# Altium integrated library Linear Technology Power Management System Supervisor, Monitor and Control.IntLib: 1611 symbols (part 44 of 100)
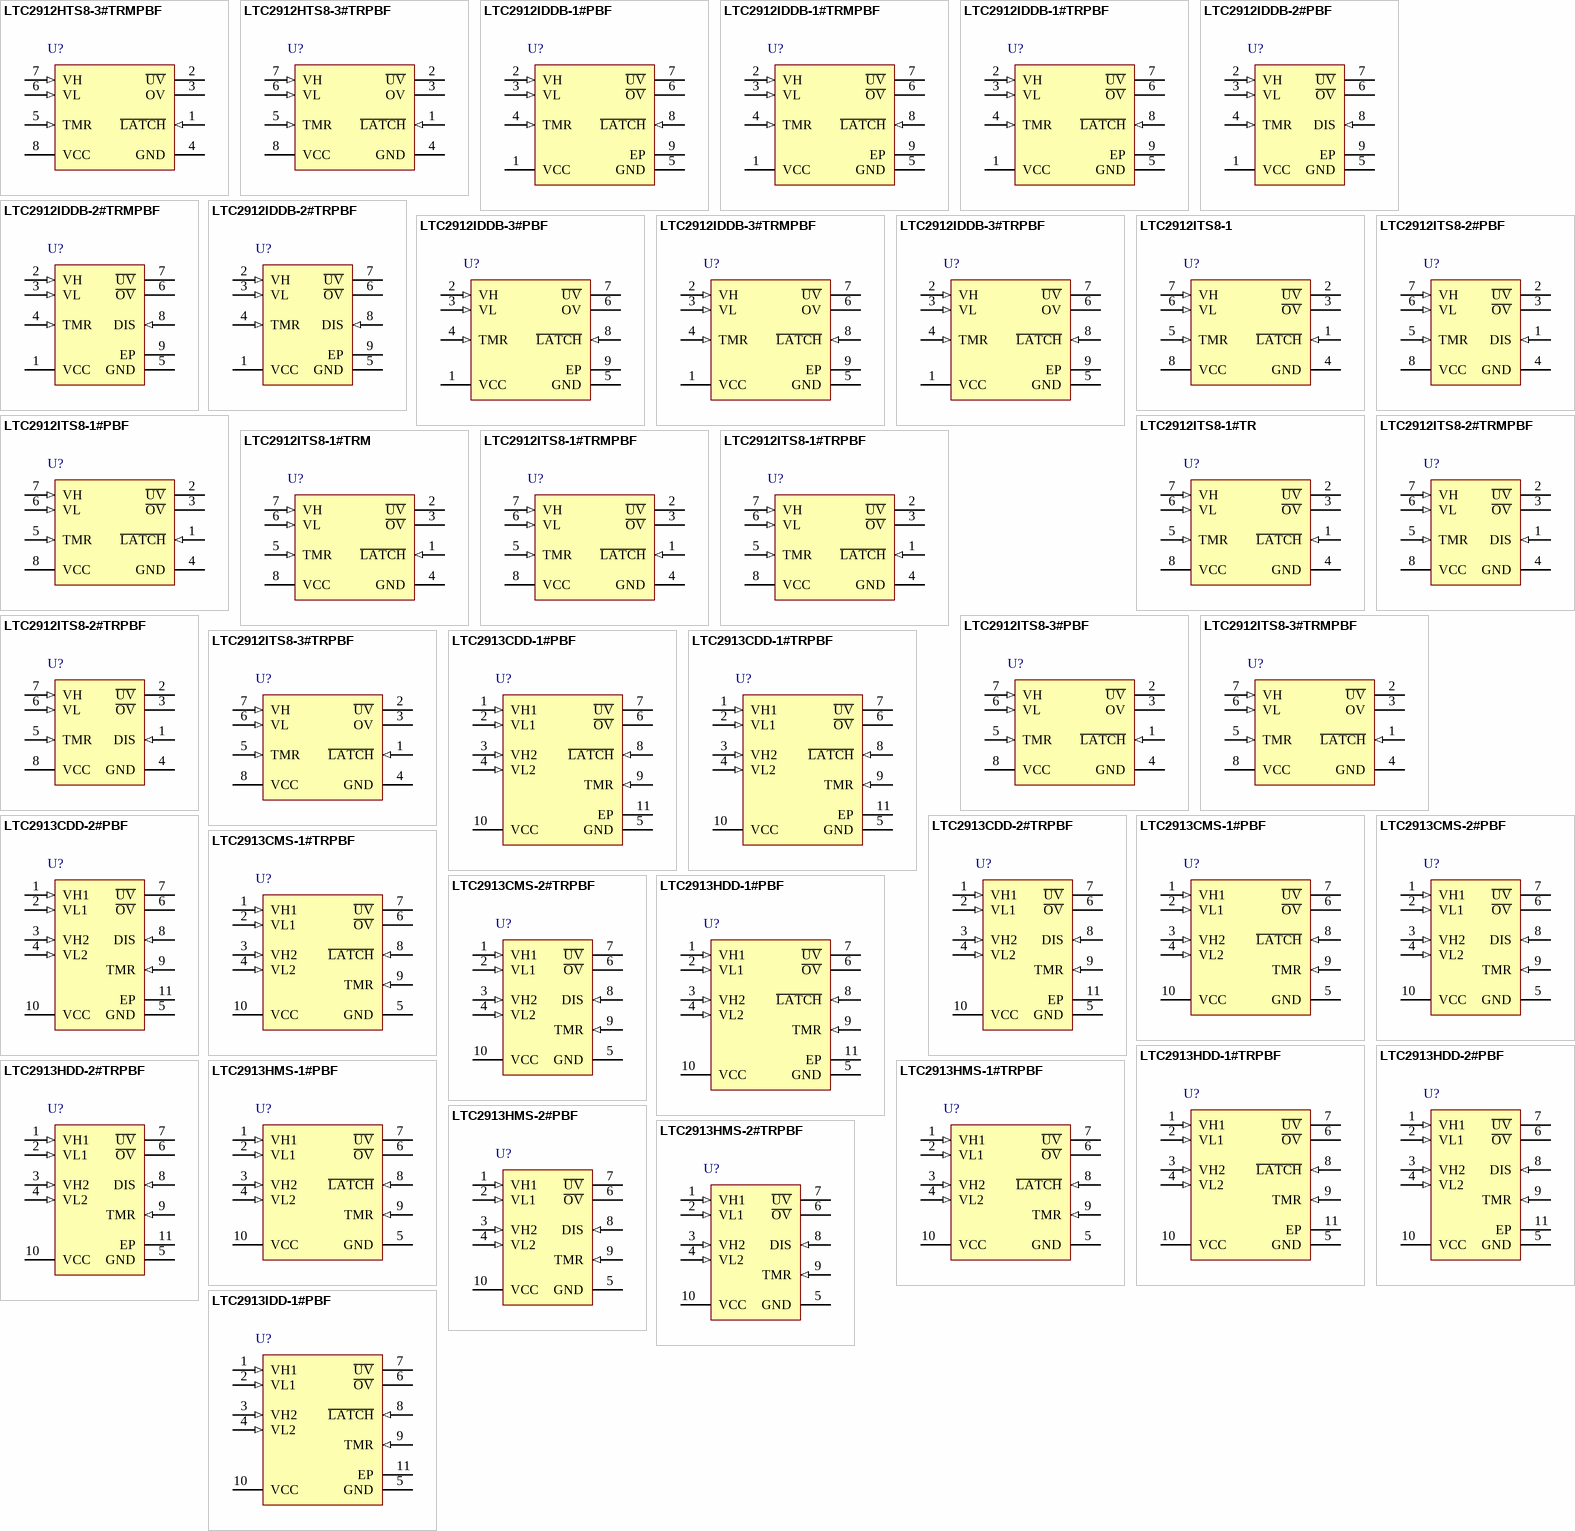
[diagram p88: symbols LTC2912HTS8-3#TRMPBF to LTC2913IDD-1#PBF]

## LTC2912ITS8-2#TRMPBF
designator U?
Single UV/OV Voltage Monitor, 8-pin SOT23 (TS8-8), -40 to 85 degC, Pb-Free, Mini Tape and Reel; Manufacturer: Linear Technology; PartNumber: LTC2912ITS8-2#TRMPBF; Number of Supplies(#): 1; DatasheetVersion: Rev. A; PackageVersion: Rev. A, 08/2010; PackageReference: TS8-8; PackageDescription: 8-Pin Plastic TSOT-23, Body 2.9 x 1.63 mm, Pitch 0.65 mm; Supplier 1: Digi-Key; Supplier Part Number 1: LTC2912ITS8-2#TRMPBFTR-ND; Supplier 2: Digi-Key; Supplier Part Number 2: LTC2912ITS8-2#TRMPBFCT-ND; Supplier 3: Digi-Key; Supplier Part Number 3: LTC2912ITS8-2#TRMPBFDKR-ND; Supplier 4: Farnell; Supplier Part Number 4: 1663883; Supplier 5: Farnell; Supplier Part Number 5: 1663883RL; Supplier 6: Newark; Supplier Part Number 6: 56M6875; Packing: Mini Tape and Reel; RoHS: TRUE; Mounting Technology: Surface Mount; Code_JEDEC: MO-193; ComponentLink1Description: Manufacturer URL; ComponentLink1URL: http://www.linear.com/; ComponentLink2Description: Datasheet; ComponentLink2URL: http://cds.linear.com/docs/en/datasheet/2912fa.pdf; ComponentLink3Description: Package Specification; ComponentLink3URL: http://cds.linear.com/docs/en/packaging/SOT_8_05-08-1637.pdf
footprint LT-TS8-8-TSOT-23_V (SOT23, 8-Leads, Body 2.9x1.75mm, Pitch 0.65mm)
pins: 1 DIS (in) "Output Disable Input. Disables the O\V\ and U\V\ output pins. When DIS is pulled high, the O\V\ and U\V\ pins are not asserted except during a UVLO condition. Pin has a weak (2uA) internal pull-down to GND. Leave pin open if (See Datasheet)", 2 ~{UV} (oc) "Undervoltage Logic Output. Asserts low when the VH input voltage is below threshold. Held low for a programmed delay time after the VH input is valid. Pin has a weak pull-up to VCC and may be pulled above VCC using an (See Datasheet)", 3 ~{OV} (oc) "Overvoltage Logic Output. Asserts high with a weak internal pull-up to VCC when the VL input is above threshold. Latches high. May be pulled above VCC using an external pull-up. Leave pin open if unused.", 4 GND (power) "Device Ground.", 5 TMR (in) "Reset Delay Timer. Attach an external capacitor (CTMR) of at least 10pF to GND to set a reset delay time of 9ms/nF. A 1nF capacitor will generate an 8.5ms reset delay time. Tie pin to VCC to bypass timer.", 6 VL (in) "Voltage Low Input. When the voltage on this pin is above 0.5V, an overvoltage condition is triggered. Tie pin to GND if unused.", 7 VH (in) "Voltage High Input. When the voltage on this pin is below 0.5V, an undervoltage condition is triggered. Tie pin to VCC if unused.", 8 VCC (power) "Supply Voltage. Bypass this pin to GND with a 0.1uF (or greater) capacitor. Operates as a direct supply input for voltages up to 6V. Operates as a shunt regulator for supply voltages greater than 6V and should have a (See Datasheet)"

## LTC2912ITS8-2#TRPBF
designator U?
Single UV/OV Voltage Monitor, 8-pin SOT23 (TS8-8), -40 to 85 degC, Pb-Free, Tape and Reel; Manufacturer: Linear Technology; PartNumber: LTC2912ITS8-2#TRPBF; Number of Supplies(#): 1; DatasheetVersion: Rev. A; PackageVersion: Rev. A, 08/2010; PackageReference: TS8-8; PackageDescription: 8-Pin Plastic TSOT-23, Body 2.9 x 1.63 mm, Pitch 0.65 mm; Supplier 1: Digi-Key; Supplier Part Number 1: LTC2912ITS8-2#TRPBF-ND; Supplier 2: Newark; Supplier Part Number 2: 56M6876; Packing: Tape and Reel; RoHS: TRUE; Mounting Technology: Surface Mount; Code_JEDEC: MO-193; ComponentLink1Description: Manufacturer URL; ComponentLink1URL: http://www.linear.com/; ComponentLink2Description: Datasheet; ComponentLink2URL: http://cds.linear.com/docs/en/datasheet/2912fa.pdf; ComponentLink3Description: Package Specification; ComponentLink3URL: http://cds.linear.com/docs/en/packaging/SOT_8_05-08-1637.pdf
footprint LT-TS8-8-TSOT-23_V (SOT23, 8-Leads, Body 2.9x1.75mm, Pitch 0.65mm)
pins: 1 DIS (in) "Output Disable Input. Disables the O\V\ and U\V\ output pins. When DIS is pulled high, the O\V\ and U\V\ pins are not asserted except during a UVLO condition. Pin has a weak (2uA) internal pull-down to GND. Leave pin open if (See Datasheet)", 2 ~{UV} (oc) "Undervoltage Logic Output. Asserts low when the VH input voltage is below threshold. Held low for a programmed delay time after the VH input is valid. Pin has a weak pull-up to VCC and may be pulled above VCC using an (See Datasheet)", 3 ~{OV} (oc) "Overvoltage Logic Output. Asserts high with a weak internal pull-up to VCC when the VL input is above threshold. Latches high. May be pulled above VCC using an external pull-up. Leave pin open if unused.", 4 GND (power) "Device Ground.", 5 TMR (in) "Reset Delay Timer. Attach an external capacitor (CTMR) of at least 10pF to GND to set a reset delay time of 9ms/nF. A 1nF capacitor will generate an 8.5ms reset delay time. Tie pin to VCC to bypass timer.", 6 VL (in) "Voltage Low Input. When the voltage on this pin is above 0.5V, an overvoltage condition is triggered. Tie pin to GND if unused.", 7 VH (in) "Voltage High Input. When the voltage on this pin is below 0.5V, an undervoltage condition is triggered. Tie pin to VCC if unused.", 8 VCC (power) "Supply Voltage. Bypass this pin to GND with a 0.1uF (or greater) capacitor. Operates as a direct supply input for voltages up to 6V. Operates as a shunt regulator for supply voltages greater than 6V and should have a (See Datasheet)"

## LTC2912ITS8-3#PBF
designator U?
Single UV/OV Voltage Monitor, 8-pin SOT23 (TS8-8), -40 to 85 degC, Pb-Free; Manufacturer: Linear Technology; PartNumber: LTC2912ITS8-3#PBF; Number of Supplies(#): 1; DatasheetVersion: Rev. A; PackageVersion: Rev. A, 08/2010; PackageReference: TS8-8; PackageDescription: 8-Pin Plastic TSOT-23, Body 2.9 x 1.63 mm, Pitch 0.65 mm; RoHS: TRUE; Mounting Technology: Surface Mount; Code_JEDEC: MO-193; ComponentLink1Description: Manufacturer URL; ComponentLink1URL: http://www.linear.com/; ComponentLink2Description: Datasheet; ComponentLink2URL: http://cds.linear.com/docs/en/datasheet/2912fa.pdf; ComponentLink3Description: Package Specification; ComponentLink3URL: http://cds.linear.com/docs/en/packaging/SOT_8_05-08-1637.pdf
footprint LT-TS8-8-TSOT-23_V (SOT23, 8-Leads, Body 2.9x1.75mm, Pitch 0.65mm)
pins: 1 ~{LATCH} (in) "OV/O\V\ Latch Clear/Bypass Input. When pulled high, OV/O\V\ latch is cleared. While held high, OV/O\V\ has a similar delay and output characteristic as U\V\.", 2 ~{UV} (oc) "Undervoltage Logic Output. Asserts low when the VH input voltage is below threshold. Held low for a programmed delay time after the VH input is valid. Pin has a weak pull-up to VCC and may be pulled above VCC using an (See Datasheet)", 3 OV (oc) "Overvoltage Logic Output. Asserts high with a weak internal pull-up to VCC when the VL input is above threshold. Latches high. May be pulled above VCC using an external pull-up. Leave pin open if unused.", 4 GND (power) "Device Ground.", 5 TMR (in) "Reset Delay Timer. Attach an external capacitor (CTMR) of at least 10pF to GND to set a reset delay time of 9ms/nF. A 1nF capacitor will generate an 8.5ms reset delay time. Tie pin to VCC to bypass timer.", 6 VL (in) "Voltage Low Input. When the voltage on this pin is above 0.5V, an overvoltage condition is triggered. Tie pin to GND if unused.", 7 VH (in) "Voltage High Input. When the voltage on this pin is below 0.5V, an undervoltage condition is triggered. Tie pin to VCC if unused.", 8 VCC (power) "Supply Voltage. Bypass this pin to GND with a 0.1uF (or greater) capacitor. Operates as a direct supply input for voltages up to 6V. Operates as a shunt regulator for supply voltages greater than 6V and should have a (See Datasheet)"

## LTC2912ITS8-3#TRMPBF
designator U?
Single UV/OV Voltage Monitor, 8-pin SOT23 (TS8-8), -40 to 85 degC, Pb-Free, Mini Tape and Reel; Manufacturer: Linear Technology; PartNumber: LTC2912ITS8-3#TRMPBF; Number of Supplies(#): 1; DatasheetVersion: Rev. A; PackageVersion: Rev. A, 08/2010; PackageReference: TS8-8; PackageDescription: 8-Pin Plastic TSOT-23, Body 2.9 x 1.63 mm, Pitch 0.65 mm; Supplier 1: Digi-Key; Supplier Part Number 1: LTC2912ITS8-3#TRMPBFTR-ND; Supplier 2: Digi-Key; Supplier Part Number 2: LTC2912ITS8-3#TRMPBFCT-ND; Supplier 3: Digi-Key; Supplier Part Number 3: LTC2912ITS8-3#TRMPBFDKR-ND; Packing: Mini Tape and Reel; RoHS: TRUE; Mounting Technology: Surface Mount; Code_JEDEC: MO-193; ComponentLink1Description: Manufacturer URL; ComponentLink1URL: http://www.linear.com/; ComponentLink2Description: Datasheet; ComponentLink2URL: http://cds.linear.com/docs/en/datasheet/2912fa.pdf; ComponentLink3Description: Package Specification; ComponentLink3URL: http://cds.linear.com/docs/en/packaging/SOT_8_05-08-1637.pdf
footprint LT-TS8-8-TSOT-23_V (SOT23, 8-Leads, Body 2.9x1.75mm, Pitch 0.65mm)
pins: 1 ~{LATCH} (in) "OV/O\V\ Latch Clear/Bypass Input. When pulled high, OV/O\V\ latch is cleared. While held high, OV/O\V\ has a similar delay and output characteristic as U\V\.", 2 ~{UV} (oc) "Undervoltage Logic Output. Asserts low when the VH input voltage is below threshold. Held low for a programmed delay time after the VH input is valid. Pin has a weak pull-up to VCC and may be pulled above VCC using an (See Datasheet)", 3 OV (oc) "Overvoltage Logic Output. Asserts high with a weak internal pull-up to VCC when the VL input is above threshold. Latches high. May be pulled above VCC using an external pull-up. Leave pin open if unused.", 4 GND (power) "Device Ground.", 5 TMR (in) "Reset Delay Timer. Attach an external capacitor (CTMR) of at least 10pF to GND to set a reset delay time of 9ms/nF. A 1nF capacitor will generate an 8.5ms reset delay time. Tie pin to VCC to bypass timer.", 6 VL (in) "Voltage Low Input. When the voltage on this pin is above 0.5V, an overvoltage condition is triggered. Tie pin to GND if unused.", 7 VH (in) "Voltage High Input. When the voltage on this pin is below 0.5V, an undervoltage condition is triggered. Tie pin to VCC if unused.", 8 VCC (power) "Supply Voltage. Bypass this pin to GND with a 0.1uF (or greater) capacitor. Operates as a direct supply input for voltages up to 6V. Operates as a shunt regulator for supply voltages greater than 6V and should have a (See Datasheet)"

## LTC2912ITS8-3#TRPBF
designator U?
Single UV/OV Voltage Monitor, 8-pin SOT23 (TS8-8), -40 to 85 degC, Pb-Free, Tape and Reel; Manufacturer: Linear Technology; PartNumber: LTC2912ITS8-3#TRPBF; Number of Supplies(#): 1; DatasheetVersion: Rev. A; PackageVersion: Rev. A, 08/2010; PackageReference: TS8-8; PackageDescription: 8-Pin Plastic TSOT-23, Body 2.9 x 1.63 mm, Pitch 0.65 mm; Supplier 1: Digi-Key; Supplier Part Number 1: LTC2912ITS8-3#TRPBF-ND; Packing: Tape and Reel; RoHS: TRUE; Mounting Technology: Surface Mount; Code_JEDEC: MO-193; ComponentLink1Description: Manufacturer URL; ComponentLink1URL: http://www.linear.com/; ComponentLink2Description: Datasheet; ComponentLink2URL: http://cds.linear.com/docs/en/datasheet/2912fa.pdf; ComponentLink3Description: Package Specification; ComponentLink3URL: http://cds.linear.com/docs/en/packaging/SOT_8_05-08-1637.pdf
footprint LT-TS8-8-TSOT-23_V (SOT23, 8-Leads, Body 2.9x1.75mm, Pitch 0.65mm)
pins: 1 ~{LATCH} (in) "OV/O\V\ Latch Clear/Bypass Input. When pulled high, OV/O\V\ latch is cleared. While held high, OV/O\V\ has a similar delay and output characteristic as U\V\.", 2 ~{UV} (oc) "Undervoltage Logic Output. Asserts low when the VH input voltage is below threshold. Held low for a programmed delay time after the VH input is valid. Pin has a weak pull-up to VCC and may be pulled above VCC using an (See Datasheet)", 3 OV (oc) "Overvoltage Logic Output. Asserts high with a weak internal pull-up to VCC when the VL input is above threshold. Latches high. May be pulled above VCC using an external pull-up. Leave pin open if unused.", 4 GND (power) "Device Ground.", 5 TMR (in) "Reset Delay Timer. Attach an external capacitor (CTMR) of at least 10pF to GND to set a reset delay time of 9ms/nF. A 1nF capacitor will generate an 8.5ms reset delay time. Tie pin to VCC to bypass timer.", 6 VL (in) "Voltage Low Input. When the voltage on this pin is above 0.5V, an overvoltage condition is triggered. Tie pin to GND if unused.", 7 VH (in) "Voltage High Input. When the voltage on this pin is below 0.5V, an undervoltage condition is triggered. Tie pin to VCC if unused.", 8 VCC (power) "Supply Voltage. Bypass this pin to GND with a 0.1uF (or greater) capacitor. Operates as a direct supply input for voltages up to 6V. Operates as a shunt regulator for supply voltages greater than 6V and should have a (See Datasheet)"

## LTC2913CDD-1#PBF
designator U?
Dual UV/OV Voltage Monitor, 10-pin SON (DD-10), 0 to 70 degC, Pb-Free; Manufacturer: Linear Technology; PartNumber: LTC2913CDD-1#PBF; Number of Supplies(#): 2; DatasheetVersion: Rev. B; PackageVersion: Rev. C, 06/2010; PackageReference: DD-10; PackageDescription: 10-Pin Plastic DFN, Body 3 x 3 mm, Pitch 0.5 mm; Supplier 1: Digi-Key; Supplier Part Number 1: LTC2913CDD-1#PBF-ND; RoHS: TRUE; Mounting Technology: Surface Mount; Code_JEDEC: MO-229; ComponentLink1Description: Manufacturer URL; ComponentLink1URL: http://www.linear.com/; ComponentLink2Description: Datasheet; ComponentLink2URL: http://cds.linear.com/docs/en/datasheet/2913fb.pdf; ComponentLink3Description: Package Specification; ComponentLink3URL: http://cds.linear.com/docs/en/packaging/DFN_10_05-08-1699.pdf
footprint LT-DD-10_V (SON, 10-Leads, Body 3x3mm, Pitch 0.5mm, Thermal Pad 2.38x1.65mm)
pins: 1 VH1 (in) "Voltage High Inputs 1 and 2. When the voltage on this pin is below 0.5V, an undervoltage condition is triggered. Tie pin to VCC if unused.", 2 VL1 (in) "Voltage Low Inputs 1 and 2. When the voltage on this pin is above 0.5V, an overvoltage condition is triggered. Tie pin to GND if unused.", 3 VH2 (in) "Voltage High Inputs 1 and 2. When the voltage on this pin is below 0.5V, an undervoltage condition is triggered. Tie pin to VCC if unused.", 4 VL2 (in) "Voltage Low Inputs 1 and 2. When the voltage on this pin is above 0.5V, an overvoltage condition is triggered. Tie pin to GND if unused.", 5 GND (power) "Device Ground.", 6 ~{OV} (oc) "Overvoltage Logic Output. Asserts low when either VL input voltage is above threshold. Latched low (LTC2913-1). Held low for programmed delay time after both VL inputs are valid (LTC2913-2). O\V\ has a weak pullup to VCC and (See Datasheet)", 7 ~{UV} (oc) "Undervoltage Logic Output. Asserts low when either VH input voltage is below threshold. Held low for a programmed delay time after both VH inputs are valid. U\V\ has a weak pull-up to VCC and may be pulled above VCC using an (See Datasheet)", 8 ~{LATCH} (in) "O\V\ Latch Clear/Bypass Input. When pin is pulled low, O\V\ is latched when asserted. When pulled high, O\V\ latch is cleared. While held high, O\V\ has the same delay and output characteristics as U\V\.", 9 TMR (in) "Reset Delay Timer. Attach an external capacitor (CTMR) of at least 10pF to GND to set a reset delay time of 9ms/nF. A 1nF capacitor will generate an 8.5ms reset delay time. Tie TMR to VCC to bypass timer.", 10 VCC (power) "Supply Voltage. Bypass this pin to GND with a 0.1uF (or greater) capacitor. Operates as a direct supply input for voltages up to 6V. Operates as a shunt regulator for supply voltages greater than 6V and must have a (See Datasheet)", 11 EP (power) "Exposed Pad may be left open or connected to device ground."

## LTC2913CDD-1#TRPBF
designator U?
Dual UV/OV Voltage Monitor, 10-pin SON (DD-10), 0 to 70 degC, Pb-Free, Tape and Reel; Manufacturer: Linear Technology; PartNumber: LTC2913CDD-1#TRPBF; Number of Supplies(#): 2; DatasheetVersion: Rev. B; PackageVersion: Rev. C, 06/2010; PackageReference: DD-10; PackageDescription: 10-Pin Plastic DFN, Body 3 x 3 mm, Pitch 0.5 mm; Supplier 1: Digi-Key; Supplier Part Number 1: LTC2913CDD-1#TRPBF-ND; Packing: Tape and Reel; RoHS: TRUE; Mounting Technology: Surface Mount; Code_JEDEC: MO-229; ComponentLink1Description: Manufacturer URL; ComponentLink1URL: http://www.linear.com/; ComponentLink2Description: Datasheet; ComponentLink2URL: http://cds.linear.com/docs/en/datasheet/2913fb.pdf; ComponentLink3Description: Package Specification; ComponentLink3URL: http://cds.linear.com/docs/en/packaging/DFN_10_05-08-1699.pdf
footprint LT-DD-10_V (SON, 10-Leads, Body 3x3mm, Pitch 0.5mm, Thermal Pad 2.38x1.65mm)
pins: 1 VH1 (in) "Voltage High Inputs 1 and 2. When the voltage on this pin is below 0.5V, an undervoltage condition is triggered. Tie pin to VCC if unused.", 2 VL1 (in) "Voltage Low Inputs 1 and 2. When the voltage on this pin is above 0.5V, an overvoltage condition is triggered. Tie pin to GND if unused.", 3 VH2 (in) "Voltage High Inputs 1 and 2. When the voltage on this pin is below 0.5V, an undervoltage condition is triggered. Tie pin to VCC if unused.", 4 VL2 (in) "Voltage Low Inputs 1 and 2. When the voltage on this pin is above 0.5V, an overvoltage condition is triggered. Tie pin to GND if unused.", 5 GND (power) "Device Ground.", 6 ~{OV} (oc) "Overvoltage Logic Output. Asserts low when either VL input voltage is above threshold. Latched low (LTC2913-1). Held low for programmed delay time after both VL inputs are valid (LTC2913-2). O\V\ has a weak pullup to VCC and (See Datasheet)", 7 ~{UV} (oc) "Undervoltage Logic Output. Asserts low when either VH input voltage is below threshold. Held low for a programmed delay time after both VH inputs are valid. U\V\ has a weak pull-up to VCC and may be pulled above VCC using an (See Datasheet)", 8 ~{LATCH} (in) "O\V\ Latch Clear/Bypass Input. When pin is pulled low, O\V\ is latched when asserted. When pulled high, O\V\ latch is cleared. While held high, O\V\ has the same delay and output characteristics as U\V\.", 9 TMR (in) "Reset Delay Timer. Attach an external capacitor (CTMR) of at least 10pF to GND to set a reset delay time of 9ms/nF. A 1nF capacitor will generate an 8.5ms reset delay time. Tie TMR to VCC to bypass timer.", 10 VCC (power) "Supply Voltage. Bypass this pin to GND with a 0.1uF (or greater) capacitor. Operates as a direct supply input for voltages up to 6V. Operates as a shunt regulator for supply voltages greater than 6V and must have a (See Datasheet)", 11 EP (power) "Exposed Pad may be left open or connected to device ground."

## LTC2913CDD-2#PBF
designator U?
Dual UV/OV Voltage Monitor, 10-pin SON (DD-10), 0 to 70 degC, Pb-Free; Manufacturer: Linear Technology; PartNumber: LTC2913CDD-2#PBF; Number of Supplies(#): 2; DatasheetVersion: Rev. B; PackageVersion: Rev. C, 06/2010; PackageReference: DD-10; PackageDescription: 10-Pin Plastic DFN, Body 3 x 3 mm, Pitch 0.5 mm; Supplier 1: Digi-Key; Supplier Part Number 1: LTC2913CDD-2#PBF-ND; RoHS: TRUE; Mounting Technology: Surface Mount; Code_JEDEC: MO-229; ComponentLink1Description: Manufacturer URL; ComponentLink1URL: http://www.linear.com/; ComponentLink2Description: Datasheet; ComponentLink2URL: http://cds.linear.com/docs/en/datasheet/2913fb.pdf; ComponentLink3Description: Package Specification; ComponentLink3URL: http://cds.linear.com/docs/en/packaging/DFN_10_05-08-1699.pdf
footprint LT-DD-10_V (SON, 10-Leads, Body 3x3mm, Pitch 0.5mm, Thermal Pad 2.38x1.65mm)
pins: 1 VH1 (in) "Voltage High Inputs 1 and 2. When the voltage on this pin is below 0.5V, an undervoltage condition is triggered. Tie pin to VCC if unused.", 2 VL1 (in) "Voltage Low Inputs 1 and 2. When the voltage on this pin is above 0.5V, an overvoltage condition is triggered. Tie pin to GND if unused.", 3 VH2 (in) "Voltage High Inputs 1 and 2. When the voltage on this pin is below 0.5V, an undervoltage condition is triggered. Tie pin to VCC if unused.", 4 VL2 (in) "Voltage Low Inputs 1 and 2. When the voltage on this pin is above 0.5V, an overvoltage condition is triggered. Tie pin to GND if unused.", 5 GND (power) "Device Ground.", 6 ~{OV} (oc) "Overvoltage Logic Output. Asserts low when either VL input voltage is above threshold. Latched low (LTC2913-1). Held low for programmed delay time after both VL inputs are valid (LTC2913-2). O\V\ has a weak pullup to VCC and (See Datasheet)", 7 ~{UV} (oc) "Undervoltage Logic Output. Asserts low when either VH input voltage is below threshold. Held low for a programmed delay time after both VH inputs are valid. U\V\ has a weak pull-up to VCC and may be pulled above VCC using an (See Datasheet)", 8 DIS (in) "Output Disable Input. Disables the O\V\ and U\V\ output pins. When DIS is pulled high, the O\V\ and U\V\ pins are not asserted except during a UVLO condition. DIS has a weak (2uA) internal pull-down to GND. Leave DIS open if (See Datasheet)", 9 TMR (in) "Reset Delay Timer. Attach an external capacitor (CTMR) of at least 10pF to GND to set a reset delay time of 9ms/nF. A 1nF capacitor will generate an 8.5ms reset delay time. Tie TMR to VCC to bypass timer.", 10 VCC (power) "Supply Voltage. Bypass this pin to GND with a 0.1uF (or greater) capacitor. Operates as a direct supply input for voltages up to 6V. Operates as a shunt regulator for supply voltages greater than 6V and must have a (See Datasheet)", 11 EP (power) "Exposed Pad may be left open or connected to device ground."

## LTC2913CDD-2#TRPBF
designator U?
Dual UV/OV Voltage Monitor, 10-pin SON (DD-10), 0 to 70 degC, Pb-Free, Tape and Reel; Manufacturer: Linear Technology; PartNumber: LTC2913CDD-2#TRPBF; Number of Supplies(#): 2; DatasheetVersion: Rev. B; PackageVersion: Rev. C, 06/2010; PackageReference: DD-10; PackageDescription: 10-Pin Plastic DFN, Body 3 x 3 mm, Pitch 0.5 mm; Supplier 1: Digi-Key; Supplier Part Number 1: LTC2913CDD-2#TRPBF-ND; Packing: Tape and Reel; RoHS: TRUE; Mounting Technology: Surface Mount; Code_JEDEC: MO-229; ComponentLink1Description: Manufacturer URL; ComponentLink1URL: http://www.linear.com/; ComponentLink2Description: Datasheet; ComponentLink2URL: http://cds.linear.com/docs/en/datasheet/2913fb.pdf; ComponentLink3Description: Package Specification; ComponentLink3URL: http://cds.linear.com/docs/en/packaging/DFN_10_05-08-1699.pdf
footprint LT-DD-10_V (SON, 10-Leads, Body 3x3mm, Pitch 0.5mm, Thermal Pad 2.38x1.65mm)
pins: 1 VH1 (in) "Voltage High Inputs 1 and 2. When the voltage on this pin is below 0.5V, an undervoltage condition is triggered. Tie pin to VCC if unused.", 2 VL1 (in) "Voltage Low Inputs 1 and 2. When the voltage on this pin is above 0.5V, an overvoltage condition is triggered. Tie pin to GND if unused.", 3 VH2 (in) "Voltage High Inputs 1 and 2. When the voltage on this pin is below 0.5V, an undervoltage condition is triggered. Tie pin to VCC if unused.", 4 VL2 (in) "Voltage Low Inputs 1 and 2. When the voltage on this pin is above 0.5V, an overvoltage condition is triggered. Tie pin to GND if unused.", 5 GND (power) "Device Ground.", 6 ~{OV} (oc) "Overvoltage Logic Output. Asserts low when either VL input voltage is above threshold. Latched low (LTC2913-1). Held low for programmed delay time after both VL inputs are valid (LTC2913-2). O\V\ has a weak pullup to VCC and (See Datasheet)", 7 ~{UV} (oc) "Undervoltage Logic Output. Asserts low when either VH input voltage is below threshold. Held low for a programmed delay time after both VH inputs are valid. U\V\ has a weak pull-up to VCC and may be pulled above VCC using an (See Datasheet)", 8 DIS (in) "Output Disable Input. Disables the O\V\ and U\V\ output pins. When DIS is pulled high, the O\V\ and U\V\ pins are not asserted except during a UVLO condition. DIS has a weak (2uA) internal pull-down to GND. Leave DIS open if (See Datasheet)", 9 TMR (in) "Reset Delay Timer. Attach an external capacitor (CTMR) of at least 10pF to GND to set a reset delay time of 9ms/nF. A 1nF capacitor will generate an 8.5ms reset delay time. Tie TMR to VCC to bypass timer.", 10 VCC (power) "Supply Voltage. Bypass this pin to GND with a 0.1uF (or greater) capacitor. Operates as a direct supply input for voltages up to 6V. Operates as a shunt regulator for supply voltages greater than 6V and must have a (See Datasheet)", 11 EP (power) "Exposed Pad may be left open or connected to device ground."

## LTC2913CMS-1#PBF
designator U?
Dual UV/OV Voltage Monitor, 10-pin SOP (MS-10), 0 to 70 degC, Pb-Free; Manufacturer: Linear Technology; PartNumber: LTC2913CMS-1#PBF; Number of Supplies(#): 2; DatasheetVersion: Rev. B; PackageVersion: Rev. E, 06/2010; PackageReference: MS-10; PackageDescription: 10-Pin Plastic MSOP, Body 3 x 3 mm, Pitch 0.5 mm; Supplier 1: Digi-Key; Supplier Part Number 1: LTC2913CMS-1#PBF-ND; Supplier 2: Newark; Supplier Part Number 2: 56M6890; RoHS: TRUE; Mounting Technology: Surface Mount; ComponentLink1Description: Manufacturer URL; ComponentLink1URL: http://www.linear.com/; ComponentLink2Description: Datasheet; ComponentLink2URL: http://cds.linear.com/docs/en/datasheet/2913fb.pdf; ComponentLink3Description: Package Specification; ComponentLink3URL: http://cds.linear.com/docs/en/packaging/05081661_F_MS.pdf
footprint LT-MS-10_N (SOP, 10-Leads, Body 3.1x3.1mm, Pitch 0.5mm, IPC Medium Density)
footprint LT-MS-10_L (SOP, 10-Leads, Body 3.1x3.1mm, Pitch 0.5mm, IPC High Density)
footprint LT-MS-10_M (SOP, 10-Leads, Body 3.1x3.1mm, Pitch 0.5mm, IPC Low Density)
pins: 1 VH1 (in) "Voltage High Inputs 1 and 2. When the voltage on this pin is below 0.5V, an undervoltage condition is triggered. Tie pin to VCC if unused.", 2 VL1 (in) "Voltage Low Inputs 1 and 2. When the voltage on this pin is above 0.5V, an overvoltage condition is triggered. Tie pin to GND if unused.", 3 VH2 (in) "Voltage High Inputs 1 and 2. When the voltage on this pin is below 0.5V, an undervoltage condition is triggered. Tie pin to VCC if unused.", 4 VL2 (in) "Voltage Low Inputs 1 and 2. When the voltage on this pin is above 0.5V, an overvoltage condition is triggered. Tie pin to GND if unused.", 5 GND (power) "Device Ground.", 6 ~{OV} (oc) "Overvoltage Logic Output. Asserts low when either VL input voltage is above threshold. Latched low (LTC2913-1). Held low for programmed delay time after both VL inputs are valid (LTC2913-2). O\V\ has a weak pullup to VCC and (See Datasheet)", 7 ~{UV} (oc) "Undervoltage Logic Output. Asserts low when either VH input voltage is below threshold. Held low for a programmed delay time after both VH inputs are valid. U\V\ has a weak pull-up to VCC and may be pulled above VCC using an (See Datasheet)", 8 ~{LATCH} (in) "O\V\ Latch Clear/Bypass Input. When pin is pulled low, O\V\ is latched when asserted. When pulled high, O\V\ latch is cleared. While held high, O\V\ has the same delay and output characteristics as U\V\.", 9 TMR (in) "Reset Delay Timer. Attach an external capacitor (CTMR) of at least 10pF to GND to set a reset delay time of 9ms/nF. A 1nF capacitor will generate an 8.5ms reset delay time. Tie TMR to VCC to bypass timer.", 10 VCC (power) "Supply Voltage. Bypass this pin to GND with a 0.1uF (or greater) capacitor. Operates as a direct supply input for voltages up to 6V. Operates as a shunt regulator for supply voltages greater than 6V and must have a (See Datasheet)"

## LTC2913CMS-1#TRPBF
designator U?
Dual UV/OV Voltage Monitor, 10-pin SOP (MS-10), 0 to 70 degC, Pb-Free, Tape and Reel; Manufacturer: Linear Technology; PartNumber: LTC2913CMS-1#TRPBF; Number of Supplies(#): 2; DatasheetVersion: Rev. B; PackageVersion: Rev. E, 06/2010; PackageReference: MS-10; PackageDescription: 10-Pin Plastic MSOP, Body 3 x 3 mm, Pitch 0.5 mm; Supplier 1: Digi-Key; Supplier Part Number 1: LTC2913CMS-1#TRPBF-ND; Packing: Tape and Reel; RoHS: TRUE; Mounting Technology: Surface Mount; ComponentLink1Description: Manufacturer URL; ComponentLink1URL: http://www.linear.com/; ComponentLink2Description: Datasheet; ComponentLink2URL: http://cds.linear.com/docs/en/datasheet/2913fb.pdf; ComponentLink3Description: Package Specification; ComponentLink3URL: http://cds.linear.com/docs/en/packaging/05081661_F_MS.pdf
footprint LT-MS-10_N (SOP, 10-Leads, Body 3.1x3.1mm, Pitch 0.5mm, IPC Medium Density)
footprint LT-MS-10_L (SOP, 10-Leads, Body 3.1x3.1mm, Pitch 0.5mm, IPC High Density)
footprint LT-MS-10_M (SOP, 10-Leads, Body 3.1x3.1mm, Pitch 0.5mm, IPC Low Density)
pins: 1 VH1 (in) "Voltage High Inputs 1 and 2. When the voltage on this pin is below 0.5V, an undervoltage condition is triggered. Tie pin to VCC if unused.", 2 VL1 (in) "Voltage Low Inputs 1 and 2. When the voltage on this pin is above 0.5V, an overvoltage condition is triggered. Tie pin to GND if unused.", 3 VH2 (in) "Voltage High Inputs 1 and 2. When the voltage on this pin is below 0.5V, an undervoltage condition is triggered. Tie pin to VCC if unused.", 4 VL2 (in) "Voltage Low Inputs 1 and 2. When the voltage on this pin is above 0.5V, an overvoltage condition is triggered. Tie pin to GND if unused.", 5 GND (power) "Device Ground.", 6 ~{OV} (oc) "Overvoltage Logic Output. Asserts low when either VL input voltage is above threshold. Latched low (LTC2913-1). Held low for programmed delay time after both VL inputs are valid (LTC2913-2). O\V\ has a weak pullup to VCC and (See Datasheet)", 7 ~{UV} (oc) "Undervoltage Logic Output. Asserts low when either VH input voltage is below threshold. Held low for a programmed delay time after both VH inputs are valid. U\V\ has a weak pull-up to VCC and may be pulled above VCC using an (See Datasheet)", 8 ~{LATCH} (in) "O\V\ Latch Clear/Bypass Input. When pin is pulled low, O\V\ is latched when asserted. When pulled high, O\V\ latch is cleared. While held high, O\V\ has the same delay and output characteristics as U\V\.", 9 TMR (in) "Reset Delay Timer. Attach an external capacitor (CTMR) of at least 10pF to GND to set a reset delay time of 9ms/nF. A 1nF capacitor will generate an 8.5ms reset delay time. Tie TMR to VCC to bypass timer.", 10 VCC (power) "Supply Voltage. Bypass this pin to GND with a 0.1uF (or greater) capacitor. Operates as a direct supply input for voltages up to 6V. Operates as a shunt regulator for supply voltages greater than 6V and must have a (See Datasheet)"

## LTC2913CMS-2#PBF
designator U?
Dual UV/OV Voltage Monitor, 10-pin SOP (MS-10), 0 to 70 degC, Pb-Free; Manufacturer: Linear Technology; PartNumber: LTC2913CMS-2#PBF; Number of Supplies(#): 2; DatasheetVersion: Rev. B; PackageVersion: Rev. E, 06/2010; PackageReference: MS-10; PackageDescription: 10-Pin Plastic MSOP, Body 3 x 3 mm, Pitch 0.5 mm; Supplier 1: Digi-Key; Supplier Part Number 1: LTC2913CMS-2#PBF-ND; Supplier 2: Farnell; Supplier Part Number 2: 2295420; RoHS: TRUE; Mounting Technology: Surface Mount; ComponentLink1Description: Manufacturer URL; ComponentLink1URL: http://www.linear.com/; ComponentLink2Description: Datasheet; ComponentLink2URL: http://cds.linear.com/docs/en/datasheet/2913fb.pdf; ComponentLink3Description: Package Specification; ComponentLink3URL: http://cds.linear.com/docs/en/packaging/05081661_F_MS.pdf
footprint LT-MS-10_N (SOP, 10-Leads, Body 3.1x3.1mm, Pitch 0.5mm, IPC Medium Density)
footprint LT-MS-10_L (SOP, 10-Leads, Body 3.1x3.1mm, Pitch 0.5mm, IPC High Density)
footprint LT-MS-10_M (SOP, 10-Leads, Body 3.1x3.1mm, Pitch 0.5mm, IPC Low Density)
pins: 1 VH1 (in) "Voltage High Inputs 1 and 2. When the voltage on this pin is below 0.5V, an undervoltage condition is triggered. Tie pin to VCC if unused.", 2 VL1 (in) "Voltage Low Inputs 1 and 2. When the voltage on this pin is above 0.5V, an overvoltage condition is triggered. Tie pin to GND if unused.", 3 VH2 (in) "Voltage High Inputs 1 and 2. When the voltage on this pin is below 0.5V, an undervoltage condition is triggered. Tie pin to VCC if unused.", 4 VL2 (in) "Voltage Low Inputs 1 and 2. When the voltage on this pin is above 0.5V, an overvoltage condition is triggered. Tie pin to GND if unused.", 5 GND (power) "Device Ground.", 6 ~{OV} (oc) "Overvoltage Logic Output. Asserts low when either VL input voltage is above threshold. Latched low (LTC2913-1). Held low for programmed delay time after both VL inputs are valid (LTC2913-2). O\V\ has a weak pullup to VCC and (See Datasheet)", 7 ~{UV} (oc) "Undervoltage Logic Output. Asserts low when either VH input voltage is below threshold. Held low for a programmed delay time after both VH inputs are valid. U\V\ has a weak pull-up to VCC and may be pulled above VCC using an (See Datasheet)", 8 DIS (in) "Output Disable Input. Disables the O\V\ and U\V\ output pins. When DIS is pulled high, the O\V\ and U\V\ pins are not asserted except during a UVLO condition. DIS has a weak (2uA) internal pull-down to GND. Leave DIS open if (See Datasheet)", 9 TMR (in) "Reset Delay Timer. Attach an external capacitor (CTMR) of at least 10pF to GND to set a reset delay time of 9ms/nF. A 1nF capacitor will generate an 8.5ms reset delay time. Tie TMR to VCC to bypass timer.", 10 VCC (power) "Supply Voltage. Bypass this pin to GND with a 0.1uF (or greater) capacitor. Operates as a direct supply input for voltages up to 6V. Operates as a shunt regulator for supply voltages greater than 6V and must have a (See Datasheet)"

## LTC2913CMS-2#TRPBF
designator U?
Dual UV/OV Voltage Monitor, 10-pin SOP (MS-10), 0 to 70 degC, Pb-Free, Tape and Reel; Manufacturer: Linear Technology; PartNumber: LTC2913CMS-2#TRPBF; Number of Supplies(#): 2; DatasheetVersion: Rev. B; PackageVersion: Rev. E, 06/2010; PackageReference: MS-10; PackageDescription: 10-Pin Plastic MSOP, Body 3 x 3 mm, Pitch 0.5 mm; Supplier 1: Digi-Key; Supplier Part Number 1: LTC2913CMS-2#TRPBF-ND; Packing: Tape and Reel; RoHS: TRUE; Mounting Technology: Surface Mount; ComponentLink1Description: Manufacturer URL; ComponentLink1URL: http://www.linear.com/; ComponentLink2Description: Datasheet; ComponentLink2URL: http://cds.linear.com/docs/en/datasheet/2913fb.pdf; ComponentLink3Description: Package Specification; ComponentLink3URL: http://cds.linear.com/docs/en/packaging/05081661_F_MS.pdf
footprint LT-MS-10_N (SOP, 10-Leads, Body 3.1x3.1mm, Pitch 0.5mm, IPC Medium Density)
footprint LT-MS-10_L (SOP, 10-Leads, Body 3.1x3.1mm, Pitch 0.5mm, IPC High Density)
footprint LT-MS-10_M (SOP, 10-Leads, Body 3.1x3.1mm, Pitch 0.5mm, IPC Low Density)
pins: 1 VH1 (in) "Voltage High Inputs 1 and 2. When the voltage on this pin is below 0.5V, an undervoltage condition is triggered. Tie pin to VCC if unused.", 2 VL1 (in) "Voltage Low Inputs 1 and 2. When the voltage on this pin is above 0.5V, an overvoltage condition is triggered. Tie pin to GND if unused.", 3 VH2 (in) "Voltage High Inputs 1 and 2. When the voltage on this pin is below 0.5V, an undervoltage condition is triggered. Tie pin to VCC if unused.", 4 VL2 (in) "Voltage Low Inputs 1 and 2. When the voltage on this pin is above 0.5V, an overvoltage condition is triggered. Tie pin to GND if unused.", 5 GND (power) "Device Ground.", 6 ~{OV} (oc) "Overvoltage Logic Output. Asserts low when either VL input voltage is above threshold. Latched low (LTC2913-1). Held low for programmed delay time after both VL inputs are valid (LTC2913-2). O\V\ has a weak pullup to VCC and (See Datasheet)", 7 ~{UV} (oc) "Undervoltage Logic Output. Asserts low when either VH input voltage is below threshold. Held low for a programmed delay time after both VH inputs are valid. U\V\ has a weak pull-up to VCC and may be pulled above VCC using an (See Datasheet)", 8 DIS (in) "Output Disable Input. Disables the O\V\ and U\V\ output pins. When DIS is pulled high, the O\V\ and U\V\ pins are not asserted except during a UVLO condition. DIS has a weak (2uA) internal pull-down to GND. Leave DIS open if (See Datasheet)", 9 TMR (in) "Reset Delay Timer. Attach an external capacitor (CTMR) of at least 10pF to GND to set a reset delay time of 9ms/nF. A 1nF capacitor will generate an 8.5ms reset delay time. Tie TMR to VCC to bypass timer.", 10 VCC (power) "Supply Voltage. Bypass this pin to GND with a 0.1uF (or greater) capacitor. Operates as a direct supply input for voltages up to 6V. Operates as a shunt regulator for supply voltages greater than 6V and must have a (See Datasheet)"

## LTC2913HDD-1#PBF
designator U?
Dual UV/OV Voltage Monitor, 10-pin SON (DD-10), -40 to 125 degC, Pb-Free; Manufacturer: Linear Technology; PartNumber: LTC2913HDD-1#PBF; Number of Supplies(#): 2; DatasheetVersion: Rev. B; PackageVersion: Rev. C, 06/2010; PackageReference: DD-10; PackageDescription: 10-Pin Plastic DFN, Body 3 x 3 mm, Pitch 0.5 mm; Supplier 1: Digi-Key; Supplier Part Number 1: LTC2913HDD-1#PBF-ND; RoHS: TRUE; Mounting Technology: Surface Mount; Code_JEDEC: MO-229; ComponentLink1Description: Manufacturer URL; ComponentLink1URL: http://www.linear.com/; ComponentLink2Description: Datasheet; ComponentLink2URL: http://cds.linear.com/docs/en/datasheet/2913fb.pdf; ComponentLink3Description: Package Specification; ComponentLink3URL: http://cds.linear.com/docs/en/packaging/DFN_10_05-08-1699.pdf
footprint LT-DD-10_V (SON, 10-Leads, Body 3x3mm, Pitch 0.5mm, Thermal Pad 2.38x1.65mm)
pins: 1 VH1 (in) "Voltage High Inputs 1 and 2. When the voltage on this pin is below 0.5V, an undervoltage condition is triggered. Tie pin to VCC if unused.", 2 VL1 (in) "Voltage Low Inputs 1 and 2. When the voltage on this pin is above 0.5V, an overvoltage condition is triggered. Tie pin to GND if unused.", 3 VH2 (in) "Voltage High Inputs 1 and 2. When the voltage on this pin is below 0.5V, an undervoltage condition is triggered. Tie pin to VCC if unused.", 4 VL2 (in) "Voltage Low Inputs 1 and 2. When the voltage on this pin is above 0.5V, an overvoltage condition is triggered. Tie pin to GND if unused.", 5 GND (power) "Device Ground.", 6 ~{OV} (oc) "Overvoltage Logic Output. Asserts low when either VL input voltage is above threshold. Latched low (LTC2913-1). Held low for programmed delay time after both VL inputs are valid (LTC2913-2). O\V\ has a weak pullup to VCC and (See Datasheet)", 7 ~{UV} (oc) "Undervoltage Logic Output. Asserts low when either VH input voltage is below threshold. Held low for a programmed delay time after both VH inputs are valid. U\V\ has a weak pull-up to VCC and may be pulled above VCC using an (See Datasheet)", 8 ~{LATCH} (in) "O\V\ Latch Clear/Bypass Input. When pin is pulled low, O\V\ is latched when asserted. When pulled high, O\V\ latch is cleared. While held high, O\V\ has the same delay and output characteristics as U\V\.", 9 TMR (in) "Reset Delay Timer. Attach an external capacitor (CTMR) of at least 10pF to GND to set a reset delay time of 9ms/nF. A 1nF capacitor will generate an 8.5ms reset delay time. Tie TMR to VCC to bypass timer.", 10 VCC (power) "Supply Voltage. Bypass this pin to GND with a 0.1uF (or greater) capacitor. Operates as a direct supply input for voltages up to 6V. Operates as a shunt regulator for supply voltages greater than 6V and must have a (See Datasheet)", 11 EP (power) "Exposed Pad may be left open or connected to device ground."

## LTC2913HDD-1#TRPBF
designator U?
Dual UV/OV Voltage Monitor, 10-pin SON (DD-10), -40 to 125 degC, Pb-Free, Tape and Reel; Manufacturer: Linear Technology; PartNumber: LTC2913HDD-1#TRPBF; Number of Supplies(#): 2; DatasheetVersion: Rev. B; PackageVersion: Rev. C, 06/2010; PackageReference: DD-10; PackageDescription: 10-Pin Plastic DFN, Body 3 x 3 mm, Pitch 0.5 mm; Supplier 1: Digi-Key; Supplier Part Number 1: LTC2913HDD-1#TRPBF-ND; Packing: Tape and Reel; RoHS: TRUE; Mounting Technology: Surface Mount; Code_JEDEC: MO-229; ComponentLink1Description: Manufacturer URL; ComponentLink1URL: http://www.linear.com/; ComponentLink2Description: Datasheet; ComponentLink2URL: http://cds.linear.com/docs/en/datasheet/2913fb.pdf; ComponentLink3Description: Package Specification; ComponentLink3URL: http://cds.linear.com/docs/en/packaging/DFN_10_05-08-1699.pdf
footprint LT-DD-10_V (SON, 10-Leads, Body 3x3mm, Pitch 0.5mm, Thermal Pad 2.38x1.65mm)
pins: 1 VH1 (in) "Voltage High Inputs 1 and 2. When the voltage on this pin is below 0.5V, an undervoltage condition is triggered. Tie pin to VCC if unused.", 2 VL1 (in) "Voltage Low Inputs 1 and 2. When the voltage on this pin is above 0.5V, an overvoltage condition is triggered. Tie pin to GND if unused.", 3 VH2 (in) "Voltage High Inputs 1 and 2. When the voltage on this pin is below 0.5V, an undervoltage condition is triggered. Tie pin to VCC if unused.", 4 VL2 (in) "Voltage Low Inputs 1 and 2. When the voltage on this pin is above 0.5V, an overvoltage condition is triggered. Tie pin to GND if unused.", 5 GND (power) "Device Ground.", 6 ~{OV} (oc) "Overvoltage Logic Output. Asserts low when either VL input voltage is above threshold. Latched low (LTC2913-1). Held low for programmed delay time after both VL inputs are valid (LTC2913-2). O\V\ has a weak pullup to VCC and (See Datasheet)", 7 ~{UV} (oc) "Undervoltage Logic Output. Asserts low when either VH input voltage is below threshold. Held low for a programmed delay time after both VH inputs are valid. U\V\ has a weak pull-up to VCC and may be pulled above VCC using an (See Datasheet)", 8 ~{LATCH} (in) "O\V\ Latch Clear/Bypass Input. When pin is pulled low, O\V\ is latched when asserted. When pulled high, O\V\ latch is cleared. While held high, O\V\ has the same delay and output characteristics as U\V\.", 9 TMR (in) "Reset Delay Timer. Attach an external capacitor (CTMR) of at least 10pF to GND to set a reset delay time of 9ms/nF. A 1nF capacitor will generate an 8.5ms reset delay time. Tie TMR to VCC to bypass timer.", 10 VCC (power) "Supply Voltage. Bypass this pin to GND with a 0.1uF (or greater) capacitor. Operates as a direct supply input for voltages up to 6V. Operates as a shunt regulator for supply voltages greater than 6V and must have a (See Datasheet)", 11 EP (power) "Exposed Pad may be left open or connected to device ground."

## LTC2913HDD-2#PBF
designator U?
Dual UV/OV Voltage Monitor, 10-pin SON (DD-10), -40 to 125 degC, Pb-Free; Manufacturer: Linear Technology; PartNumber: LTC2913HDD-2#PBF; Number of Supplies(#): 2; DatasheetVersion: Rev. B; PackageVersion: Rev. C, 06/2010; PackageReference: DD-10; PackageDescription: 10-Pin Plastic DFN, Body 3 x 3 mm, Pitch 0.5 mm; Supplier 1: Digi-Key; Supplier Part Number 1: LTC2913HDD-2#PBF-ND; RoHS: TRUE; Mounting Technology: Surface Mount; Code_JEDEC: MO-229; ComponentLink1Description: Manufacturer URL; ComponentLink1URL: http://www.linear.com/; ComponentLink2Description: Datasheet; ComponentLink2URL: http://cds.linear.com/docs/en/datasheet/2913fb.pdf; ComponentLink3Description: Package Specification; ComponentLink3URL: http://cds.linear.com/docs/en/packaging/DFN_10_05-08-1699.pdf
footprint LT-DD-10_V (SON, 10-Leads, Body 3x3mm, Pitch 0.5mm, Thermal Pad 2.38x1.65mm)
pins: 1 VH1 (in) "Voltage High Inputs 1 and 2. When the voltage on this pin is below 0.5V, an undervoltage condition is triggered. Tie pin to VCC if unused.", 2 VL1 (in) "Voltage Low Inputs 1 and 2. When the voltage on this pin is above 0.5V, an overvoltage condition is triggered. Tie pin to GND if unused.", 3 VH2 (in) "Voltage High Inputs 1 and 2. When the voltage on this pin is below 0.5V, an undervoltage condition is triggered. Tie pin to VCC if unused.", 4 VL2 (in) "Voltage Low Inputs 1 and 2. When the voltage on this pin is above 0.5V, an overvoltage condition is triggered. Tie pin to GND if unused.", 5 GND (power) "Device Ground.", 6 ~{OV} (oc) "Overvoltage Logic Output. Asserts low when either VL input voltage is above threshold. Latched low (LTC2913-1). Held low for programmed delay time after both VL inputs are valid (LTC2913-2). O\V\ has a weak pullup to VCC and (See Datasheet)", 7 ~{UV} (oc) "Undervoltage Logic Output. Asserts low when either VH input voltage is below threshold. Held low for a programmed delay time after both VH inputs are valid. U\V\ has a weak pull-up to VCC and may be pulled above VCC using an (See Datasheet)", 8 DIS (in) "Output Disable Input. Disables the O\V\ and U\V\ output pins. When DIS is pulled high, the O\V\ and U\V\ pins are not asserted except during a UVLO condition. DIS has a weak (2uA) internal pull-down to GND. Leave DIS open if (See Datasheet)", 9 TMR (in) "Reset Delay Timer. Attach an external capacitor (CTMR) of at least 10pF to GND to set a reset delay time of 9ms/nF. A 1nF capacitor will generate an 8.5ms reset delay time. Tie TMR to VCC to bypass timer.", 10 VCC (power) "Supply Voltage. Bypass this pin to GND with a 0.1uF (or greater) capacitor. Operates as a direct supply input for voltages up to 6V. Operates as a shunt regulator for supply voltages greater than 6V and must have a (See Datasheet)", 11 EP (power) "Exposed Pad may be left open or connected to device ground."

## LTC2913HDD-2#TRPBF
designator U?
Dual UV/OV Voltage Monitor, 10-pin SON (DD-10), -40 to 125 degC, Pb-Free, Tape and Reel; Manufacturer: Linear Technology; PartNumber: LTC2913HDD-2#TRPBF; Number of Supplies(#): 2; DatasheetVersion: Rev. B; PackageVersion: Rev. C, 06/2010; PackageReference: DD-10; PackageDescription: 10-Pin Plastic DFN, Body 3 x 3 mm, Pitch 0.5 mm; Supplier 1: Digi-Key; Supplier Part Number 1: LTC2913HDD-2#TRPBF-ND; Packing: Tape and Reel; RoHS: TRUE; Mounting Technology: Surface Mount; Code_JEDEC: MO-229; ComponentLink1Description: Manufacturer URL; ComponentLink1URL: http://www.linear.com/; ComponentLink2Description: Datasheet; ComponentLink2URL: http://cds.linear.com/docs/en/datasheet/2913fb.pdf; ComponentLink3Description: Package Specification; ComponentLink3URL: http://cds.linear.com/docs/en/packaging/DFN_10_05-08-1699.pdf
footprint LT-DD-10_V (SON, 10-Leads, Body 3x3mm, Pitch 0.5mm, Thermal Pad 2.38x1.65mm)
pins: 1 VH1 (in) "Voltage High Inputs 1 and 2. When the voltage on this pin is below 0.5V, an undervoltage condition is triggered. Tie pin to VCC if unused.", 2 VL1 (in) "Voltage Low Inputs 1 and 2. When the voltage on this pin is above 0.5V, an overvoltage condition is triggered. Tie pin to GND if unused.", 3 VH2 (in) "Voltage High Inputs 1 and 2. When the voltage on this pin is below 0.5V, an undervoltage condition is triggered. Tie pin to VCC if unused.", 4 VL2 (in) "Voltage Low Inputs 1 and 2. When the voltage on this pin is above 0.5V, an overvoltage condition is triggered. Tie pin to GND if unused.", 5 GND (power) "Device Ground.", 6 ~{OV} (oc) "Overvoltage Logic Output. Asserts low when either VL input voltage is above threshold. Latched low (LTC2913-1). Held low for programmed delay time after both VL inputs are valid (LTC2913-2). O\V\ has a weak pullup to VCC and (See Datasheet)", 7 ~{UV} (oc) "Undervoltage Logic Output. Asserts low when either VH input voltage is below threshold. Held low for a programmed delay time after both VH inputs are valid. U\V\ has a weak pull-up to VCC and may be pulled above VCC using an (See Datasheet)", 8 DIS (in) "Output Disable Input. Disables the O\V\ and U\V\ output pins. When DIS is pulled high, the O\V\ and U\V\ pins are not asserted except during a UVLO condition. DIS has a weak (2uA) internal pull-down to GND. Leave DIS open if (See Datasheet)", 9 TMR (in) "Reset Delay Timer. Attach an external capacitor (CTMR) of at least 10pF to GND to set a reset delay time of 9ms/nF. A 1nF capacitor will generate an 8.5ms reset delay time. Tie TMR to VCC to bypass timer.", 10 VCC (power) "Supply Voltage. Bypass this pin to GND with a 0.1uF (or greater) capacitor. Operates as a direct supply input for voltages up to 6V. Operates as a shunt regulator for supply voltages greater than 6V and must have a (See Datasheet)", 11 EP (power) "Exposed Pad may be left open or connected to device ground."